# EAGLE library part 62000821121 (library Eagle_BOARD-TO-BOARD_CONNECTORS (rev18b))
WR-PHD 2.00mm Dual Pin Header, 8 Pins=>Code : WR-PHD_Dual_Pin_Header_62000821121 <http://katalog.we-online.de/media/images/eican/WR-PHD_Dual_Pin_Header_6200xx21121.jpg> Details see: http://katalog.we-online.de/en/em/620_0xx_211_21 Created 2014-06-03, Karrer Zheng 2014 (C) Würth Elektronik
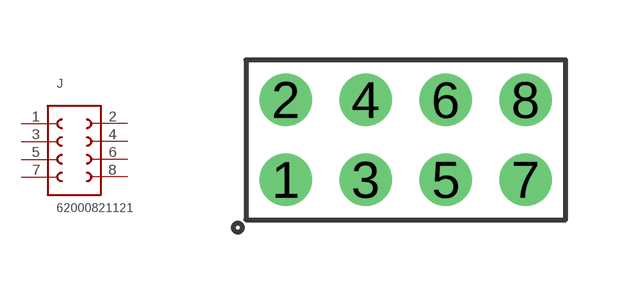
[diagram p223: symbol with the pads of 62000821121; footprint 62000821121]

Designator prefix J

## 62000821121  [62000821121]
1  1  pas
2  8  pas
3  2  pas
4  7  pas
5  3  pas
6  6  pas
7  4  pas
8  5  pas

## Footprint 62000821121 (pad centres in mm)
WR-PHD 2.00mm Dual Pin Header, 8 Pins
drill 0.8: 1 -3,-1; 2 -3,1; 3 -1,-1; 4 -1,1; 5 1,-1; 6 1,1; 7 3,-1; 8 3,1